# Altium footprint library HDS10M-13.PcbLib: 3 footprints
Each footprint in its own frame and in the unit in brackets; x right, y up, seen from the top. Pads: shape width x height; smd on the part's side, far side on the other; paste and mask are expansions set on the pad; w line width, h text height; cw(c..) or ccw(c..) is an arc to the next point about the centre after c.
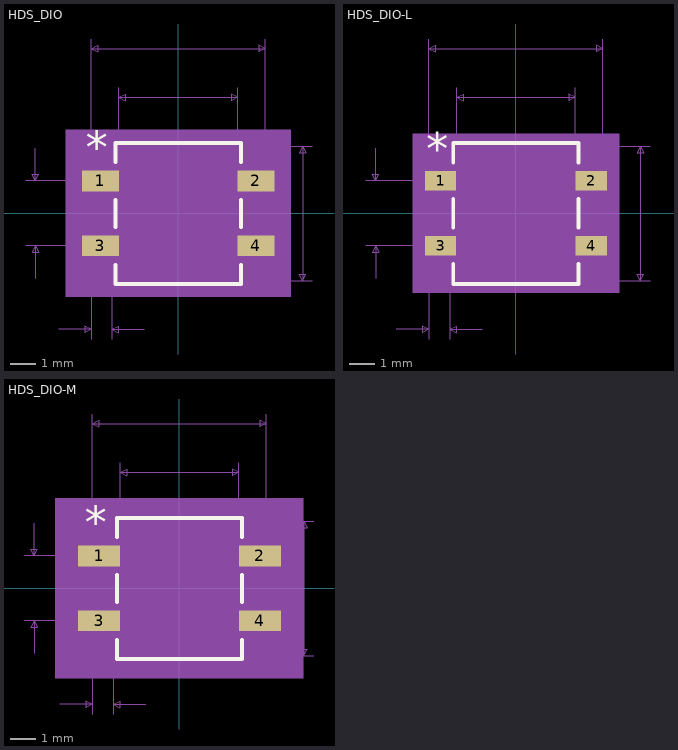
[diagram p0: the footprints below, top view; thin cyan lines are the x and y axes]

## HDS_DIO [mil]
pads (4):
  rect 56.5x32 smd paste+0 mask+0: 1(-119.75,50) 2(119.75,50) 3(-119.75,-50) 4(119.75,-50)
Top Overlay:
  lines w6: -96.5,-79.1 -96.5,-108.5 96.5,-108.5 96.5,-79.1 ; -96.5,-20.9 -96.5,20.9 ; -96.5,79.1 -96.5,108.5 96.5,108.5 96.5,79.1 ; 96.5,-20.9 96.5,20.9
  text "*" at -142.25,77 h50
Mechanical 5:
  region: 173,-128.5 -173,-128.5 -173,128.5 173,128.5
Mechanical 7:
  lines w1: -234.75,-50 -119.75,-50 ; -234.75,50 -119.75,50 ; -219.75,-100 -219.75,-50 ; -219.75,100 -219.75,50 ; -184,-178.5 -134,-178.5 ; -134,-193.5 -134,0 -134,268.5 ; -102,-193.5 -102,0 ; -91.5,0 -91.5,193.5 ; -52,-178.5 -102,-178.5 ; 0,-103.5 206.5,-103.5 ; 0,103.5 206.5,103.5 ; 91.5,0 91.5,193.5 ; 134,0 134,268.5 ; -219.75,-50 -224.75,-60 -214.75,-60 -219.75,-50 ; -219.75,50 -224.75,60 -214.75,60 -219.75,50 ; -134,-178.5 -144,-173.5 -144,-183.5 -134,-178.5 ; -134,253.5 134,253.5 ; -134,253.5 -124,258.5 -124,248.5 -134,253.5 ; -102,-178.5 -92,-173.5 -92,-183.5 -102,-178.5 ; -91.5,178.5 91.5,178.5 ; -91.5,178.5 -81.5,183.5 -81.5,173.5 -91.5,178.5 ; 91.5,178.5 81.5,183.5 81.5,173.5 91.5,178.5 ; 134,253.5 124,258.5 124,248.5 134,253.5 ; 191.5,-103.5 191.5,103.5 ; 191.5,-103.5 186.5,-93.5 196.5,-93.5 191.5,-103.5 ; 191.5,103.5 186.5,93.5 196.5,93.5 191.5,103.5
  text "Default Padstyle: RX56p5Y32D0T" at -375,-303.5 h50
  text "Pin One Padstyle: RX56p5Y32D0T" at -375,-363.5 h50
  text "Alt 1 Padstyle: OX60Y90D30P" at -337.5,-543.5 h50
  text "Alt 2 Padstyle: OX90Y60D30P" at -337.5,-603.5 h50
  text "0.183in/4.648mm" at -93.75,198.5 h25
  text "0.268in/6.807mm" at -93.75,273.5 h25
  text "0.207in/5.258mm" at 211.5,-12.5 h25
  text "0.1in/2.54mm" at -389.75,-12.5 h25
  text "0.032in/0.813mm" at -211.75,-223.5 h25
Mechanical 13:
  lines w0: -12,103.5 ccw(c0,103.5) 12,103.5
  lines w1: -134,-65 -134,-35 -91.5,-35 -91.5,-65 -134,-65 ; -134,35 -134,65 -91.5,65 -91.5,35 -134,35 ; -91.5,-103.5 91.5,-103.5 91.5,103.5 -91.5,103.5 -91.5,-103.5 ; 91.5,-65 91.5,-35 134,-35 134,-65 91.5,-65 ; 91.5,35 91.5,65 134,65 134,35 91.5,35
  text "*" at -89,50.5 h50
Mechanical 15:
  region: -101.5,-76 -158,-76 -158,76 -101.5,76 -101.5,113.5 101.5,113.5 101.5,76 158,76 158,-76 101.5,-76 101.5,-113.5 -101.5,-113.5
  lines w6: -158,-76 -158,76 -101.5,76 -101.5,113.5 101.5,113.5 101.5,76 158,76 158,-76 101.5,-76 101.5,-113.5 -101.5,-113.5 -101.5,-76 -158,-76
3D body "HDS_DIO.step": height 55.12, standoff 0, extent -134.02,-103.5 134.02,103.5

## HDS_DIO-L [mil]
pads (4):
  rect 48x30 smd paste+0 mask+0: 1(-116,50) 2(116,50) 3(-116,-50) 4(116,-50)
Top Overlay:
  lines w6: -96.5,-78.1 -96.5,-108.5 96.5,-108.5 96.5,-78.1 ; -96.5,-21.9 -96.5,21.9 ; -96.5,78.1 -96.5,108.5 96.5,108.5 96.5,78.1 ; 96.5,-21.9 96.5,21.9
  text "*" at -138.5,75 h50
Mechanical 5:
  region: 159,-122.5 -159,-122.5 -159,122.5 159,122.5
Mechanical 7:
  lines w1: -231,-50 -116,-50 ; -231,50 -116,50 ; -216,-100 -216,-50 ; -216,100 -216,50 ; -184,-178.5 -134,-178.5 ; -134,-193.5 -134,0 -134,268.5 ; -102,-193.5 -102,0 ; -91.5,0 -91.5,193.5 ; -52,-178.5 -102,-178.5 ; 0,-103.5 206.5,-103.5 ; 0,103.5 206.5,103.5 ; 91.5,0 91.5,193.5 ; 134,0 134,268.5 ; -216,-50 -221,-60 -211,-60 -216,-50 ; -216,50 -221,60 -211,60 -216,50 ; -134,-178.5 -144,-173.5 -144,-183.5 -134,-178.5 ; -134,253.5 134,253.5 ; -134,253.5 -124,258.5 -124,248.5 -134,253.5 ; -102,-178.5 -92,-173.5 -92,-183.5 -102,-178.5 ; -91.5,178.5 91.5,178.5 ; -91.5,178.5 -81.5,183.5 -81.5,173.5 -91.5,178.5 ; 91.5,178.5 81.5,183.5 81.5,173.5 91.5,178.5 ; 134,253.5 124,258.5 124,248.5 134,253.5 ; 191.5,-103.5 191.5,103.5 ; 191.5,-103.5 186.5,-93.5 196.5,-93.5 191.5,-103.5 ; 191.5,103.5 186.5,93.5 196.5,93.5 191.5,103.5
  text "Default Padstyle: RX48Y30D0T" at -350,-303.5 h50
  text "Pin One Padstyle: RX48Y30D0T" at -350,-363.5 h50
  text "Alt 1 Padstyle: OX60Y90D30P" at -337.5,-543.5 h50
  text "Alt 2 Padstyle: OX90Y60D30P" at -337.5,-603.5 h50
  text "0.183in/4.648mm" at -93.75,198.5 h25
  text "0.268in/6.807mm" at -93.75,273.5 h25
  text "0.207in/5.258mm" at 211.5,-12.5 h25
  text "0.1in/2.54mm" at -386,-12.5 h25
  text "0.032in/0.813mm" at -211.75,-223.5 h25
Mechanical 13:
  lines w0: -12,103.5 ccw(c0,103.5) 12,103.5
  lines w1: -134,-65 -134,-35 -91.5,-35 -91.5,-65 -134,-65 ; -134,35 -134,65 -91.5,65 -91.5,35 -134,35 ; -91.5,-103.5 91.5,-103.5 91.5,103.5 -91.5,103.5 -91.5,-103.5 ; 91.5,-65 91.5,-35 134,-35 134,-65 91.5,-65 ; 91.5,35 91.5,65 134,65 134,35 91.5,35
  text "*" at -89,50.5 h50
Mechanical 15:
  region: -95.5,-69 -144,-69 -144,69 -95.5,69 -95.5,107.5 95.5,107.5 95.5,69 144,69 144,-69 95.5,-69 95.5,-107.5 -95.5,-107.5
  lines w6: -144,-69 -144,69 -95.5,69 -95.5,107.5 95.5,107.5 95.5,69 144,69 144,-69 95.5,-69 95.5,-107.5 -95.5,-107.5 -95.5,-69 -144,-69
3D body "HDS_DIO.step": height 55.12, standoff 0, extent -134.02,-103.5 134.02,103.5

## HDS_DIO-M [mil]
pads (4):
  rect 64.5x32 smd paste+0 mask+0: 1(-123.75,50) 2(123.75,50) 3(-123.75,-50) 4(123.75,-50)
Top Overlay:
  lines w6: -96.5,-79.1 -96.5,-108.5 96.5,-108.5 96.5,-79.1 ; -96.5,-20.9 -96.5,20.9 ; -96.5,79.1 -96.5,108.5 96.5,108.5 96.5,79.1 ; 96.5,-20.9 96.5,20.9
  text "*" at -146.25,77 h50
Mechanical 5:
  region: 191,-138.5 -191,-138.5 -191,138.5 191,138.5
Mechanical 7:
  lines w1: -238.75,-50 -123.75,-50 ; -238.75,50 -123.75,50 ; -223.75,-100 -223.75,-50 ; -223.75,100 -223.75,50 ; -184,-178.5 -134,-178.5 ; -134,-193.5 -134,0 -134,268.5 ; -102,-193.5 -102,0 ; -91.5,0 -91.5,193.5 ; -52,-178.5 -102,-178.5 ; 0,-103.5 206.5,-103.5 ; 0,103.5 206.5,103.5 ; 91.5,0 91.5,193.5 ; 134,0 134,268.5 ; -223.75,-50 -228.75,-60 -218.75,-60 -223.75,-50 ; -223.75,50 -228.75,60 -218.75,60 -223.75,50 ; -134,-178.5 -144,-173.5 -144,-183.5 -134,-178.5 ; -134,253.5 134,253.5 ; -134,253.5 -124,258.5 -124,248.5 -134,253.5 ; -102,-178.5 -92,-173.5 -92,-183.5 -102,-178.5 ; -91.5,178.5 91.5,178.5 ; -91.5,178.5 -81.5,183.5 -81.5,173.5 -91.5,178.5 ; 91.5,178.5 81.5,183.5 81.5,173.5 91.5,178.5 ; 134,253.5 124,258.5 124,248.5 134,253.5 ; 191.5,-103.5 191.5,103.5 ; 191.5,-103.5 186.5,-93.5 196.5,-93.5 191.5,-103.5 ; 191.5,103.5 186.5,93.5 196.5,93.5 191.5,103.5
  text "Default Padstyle: RX64p5Y32D0T" at -375,-303.5 h50
  text "Pin One Padstyle: RX64p5Y32D0T" at -375,-363.5 h50
  text "Alt 1 Padstyle: OX60Y90D30P" at -337.5,-543.5 h50
  text "Alt 2 Padstyle: OX90Y60D30P" at -337.5,-603.5 h50
  text "0.183in/4.648mm" at -93.75,198.5 h25
  text "0.268in/6.807mm" at -93.75,273.5 h25
  text "0.207in/5.258mm" at 211.5,-12.5 h25
  text "0.1in/2.54mm" at -393.75,-12.5 h25
  text "0.032in/0.813mm" at -211.75,-223.5 h25
Mechanical 13:
  lines w0: -12,103.5 ccw(c0,103.5) 12,103.5
  lines w1: -134,-65 -134,-35 -91.5,-35 -91.5,-65 -134,-65 ; -134,35 -134,65 -91.5,65 -91.5,35 -134,35 ; -91.5,-103.5 91.5,-103.5 91.5,103.5 -91.5,103.5 -91.5,-103.5 ; 91.5,-65 91.5,-35 134,-35 134,-65 91.5,-65 ; 91.5,35 91.5,65 134,65 134,35 91.5,35
  text "*" at -89,50.5 h50
Mechanical 15:
  region: -111.5,-86 -176,-86 -176,86 -111.5,86 -111.5,123.5 111.5,123.5 111.5,86 176,86 176,-86 111.5,-86 111.5,-123.5 -111.5,-123.5
  lines w6: -176,-86 -176,86 -111.5,86 -111.5,123.5 111.5,123.5 111.5,86 176,86 176,-86 111.5,-86 111.5,-123.5 -111.5,-123.5 -111.5,-86 -176,-86
3D body "HDS_DIO.step": height 55.12, standoff 0, extent -134.02,-103.5 134.02,103.5